# Altium footprint library PcbLib1.PcbLib: 7 footprints
Each footprint in its own frame and in the unit in brackets; x right, y up, seen from the top. Pads: shape width x height; smd on the part's side, far side on the other; paste and mask are expansions set on the pad; w line width, h text height; cw(c..) or ccw(c..) is an arc to the next point about the centre after c.
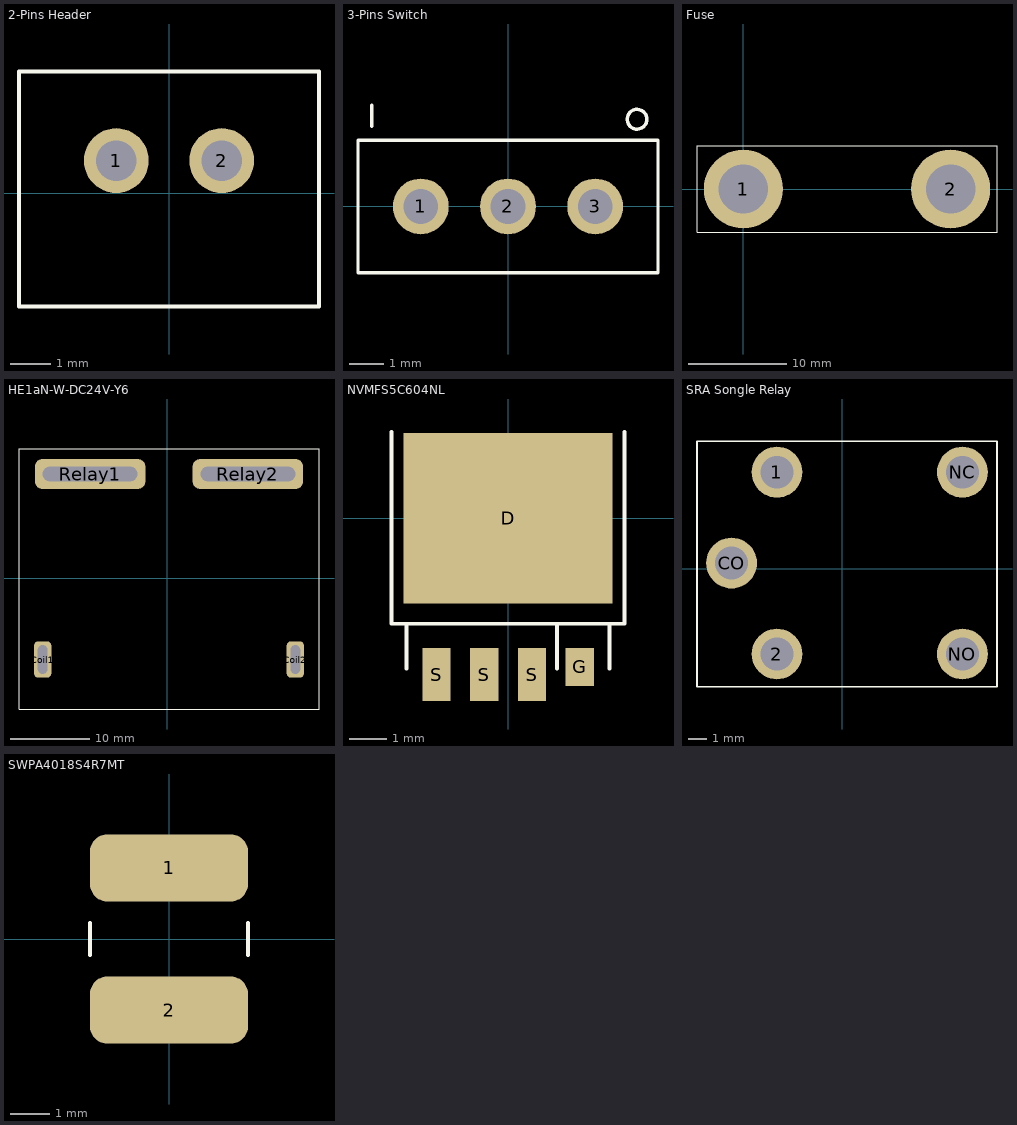
[diagram p0: the footprints below, top view; thin cyan lines are the x and y axes]

## 2-Pins Header [mm] "2-Pins Header with plastic surrounded"
pads (2):
  round 1.6 hole 1: 1(-1.3,0.8) 2(1.3,0.8)
Top Overlay:
  lines w0.1: -3.7,-2.8 -3.7,3 3.7,3 3.7,-2.8 -3.7,-2.8

## 3-Pins Switch [mm] "SS12d00G3"
pads (3):
  round 1.6 hole 1: 1(-2.5,0) 2(0,0) 3(2.5,0)
Top Overlay:
  circle w0.1: c3.7,2.5 r0.283
  lines w0.1: -3.9,2.3 -3.9,2.9 ; -4.3,-1.9 -4.3,1.9 4.3,1.9 4.3,-1.9 -4.3,-1.9

## Fuse [mm] "NOT FINIALIZED"
pads (2):
  round 8 hole 5: 1(0,0) 2(21,0)
Top Overlay:
  lines w0.1: -4.7,-4.4 25.7,-4.4 25.7,4.4 -4.7,4.4 -4.7,2 -4.7,-2 -4.7,-4.4

## HE1aN-W-DC24V-Y6 [mm] "Electro-mechanical relay"
pads (4):
  rrect50% 2.2x4.6 hole 1.2 slot 3.6 at 90 deg: Coil1(-15.8,-10.3) Coil2(16.2,-10.3)
  rrect50% 14x3.8 hole 1.8 slot 12 at 0 deg: Relay1(-9.8,13.2) Relay2(10.2,13.2)
Top Overlay:
  lines w0.1: -18.8,-16.6 -18.8,16.4 19.2,16.4 19.2,-16.6 -18.8,-16.6
3D body: height 38.8, standoff 0, extent -18.8,-16.6 19.2,16.4

## NVMFS5C604NL [mm] "Power MOSFET ; 60 V ; 1.2 mR ; 287A ; Single N-Channel"
pads (5):
  rect 5.55x4.53 smd: D(0,0)
  rect 0.75x1 smd: G(1.91,-3.95)
  rect 0.75x1.4 smd: S(-1.9,-4.15) S(-0.63,-4.15) S(0.64,-4.15)
Top Overlay:
  lines w0.1: -3.1,2.3 -3.1,-2.8 3.1,-2.8 3.1,2.3 ; -2.7,-4 -2.7,-2.8 ; 1.3,-4 1.3,-2.8 ; 2.7,-4 2.7,-2.8
Top Solder:
  rectangle: 1.4,-4.6 2.4,-3.3
  rectangle: -2.5,-5.2 1.125,-3.3
3D body "User Library-DFN5x6_SO8FL.STEP": height 1.13, standoff 0, extent -2.575,-4 2.575,2.15

## SRA Songle Relay [mm] "Songle Relay ; SRA ; 5 pins ; 20A"
pads (5):
  round 2.8 hole 1.8: 1(-3.6,5.3) 2(-3.6,-4.7) CO(-6.1,0.3) NC(6.6,5.3) NO(6.6,-4.7)
Top Overlay:
  lines w0.1: -8,-6.5 8.5,-6.5 8.5,7 -8,7 -8,-6.5
3D body: height 14.2, standoff 0, extent -8,-6.5 8.5,7

## SWPA4018S4R7MT [mm] "Wire Wound SMD Power Inductor ; 4.7uH ; 1.7A"
pads (2):
  rrect50% 4x1.7 smd: 1(0,1.8) 2(0,-1.8)
Top Overlay:
  lines w0.1: -2,-0.4 -2,0.4 ; 2,-0.4 2,0.4